# EAGLE library part JST-SH-6PIN (library meng-plant-raman)
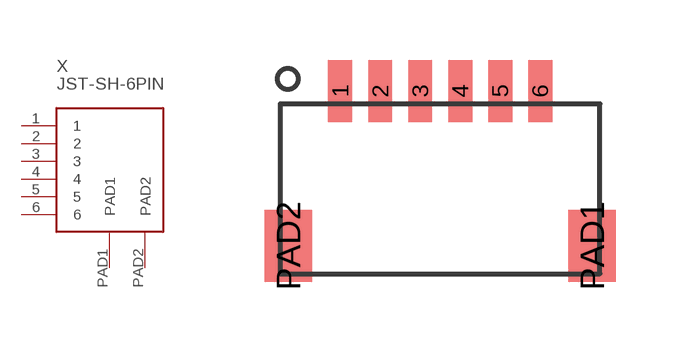
[diagram p1: symbol with the pads of JST-SM06B-SRSS-TB; footprint JST-SM06B-SRSS-TB]

Designator prefix X

## JST-SH-6PIN (VALUE: SM06B-SRSS-TB)  [JST-SM06B-SRSS-TB]
1  1
2  2
3  3
4  4
5  5
6  6
PAD1  PAD1
PAD2  PAD2

## Footprint JST-SM06B-SRSS-TB (pad centres in mm)
smd 0.6 x 1.55: 1 -2.5,4.775; 2 -1.5,4.775; 3 -0.5,4.775; 4 0.5,4.775; 5 1.5,4.775; 6 2.5,4.775
smd 1.2 x 1.8: PAD1 3.8,0.9; PAD2 -3.8,0.9